# EAGLE library part USB3300 (library Microchip)
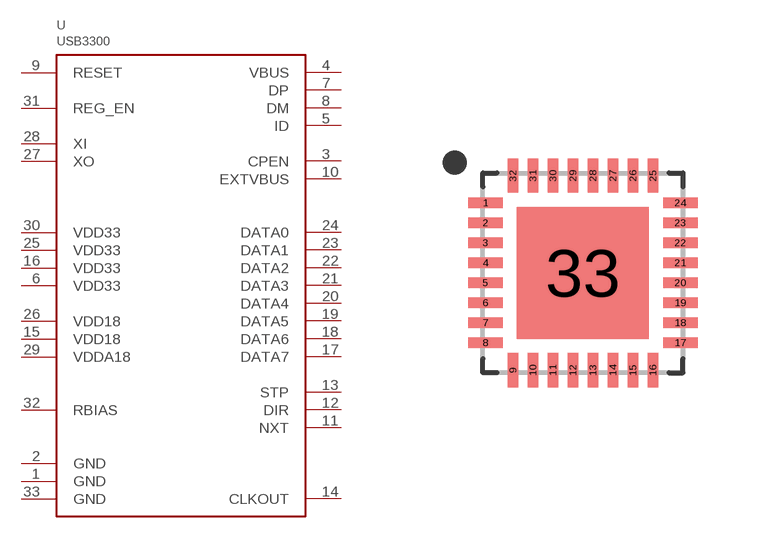
[diagram p14: symbol with the pads of QFN32; footprint QFN32]

Designator prefix U

## USB3300  [QFN32]
1  GND  pwr
2  GND  pwr
3  CPEN  out
4  VBUS
5  ID  in
6  VDD33  pwr
7  DP
8  DM
9  RESET  in
10  EXTVBUS  in
11  NXT  out
12  DIR  out
13  STP  in
14  CLKOUT  out
15  VDD18  pwr
16  VDD33  pwr
17  DATA7
18  DATA6
19  DATA5
20  DATA4
21  DATA3
22  DATA2
23  DATA1
24  DATA0
25  VDD33  pwr
26  VDD18  pwr
27  XO  out
28  XI  in
29  VDDA18  pwr
30  VDD33  pwr
31  REG_EN
32  RBIAS
33  GND  pwr

## Footprint QFN32 (pad centres in mm)
smd 0.86 x 0.26: 1 -2.435,1.75; 2 -2.435,1.25; 3 -2.435,0.75; 4 -2.435,0.25; 5 -2.435,-0.25; 6 -2.435,-0.75; 7 -2.435,-1.25; 8 -2.435,-1.75; 17 2.435,-1.75; 18 2.435,-1.25; 19 2.435,-0.75; 20 2.435,-0.25; 21 2.435,0.25; 22 2.435,0.75; 23 2.435,1.25; 24 2.435,1.75
smd 0.26 x 0.86: 9 -1.75,-2.435; 10 -1.25,-2.435; 11 -0.75,-2.435; 12 -0.25,-2.435; 13 0.25,-2.435; 14 0.75,-2.435; 15 1.25,-2.435; 16 1.75,-2.435; 25 1.75,2.435; 26 1.25,2.435; 27 0.75,2.435; 28 0.25,2.435; 29 -0.25,2.435; 30 -0.75,2.435; 31 -1.25,2.435; 32 -1.75,2.435
smd 3.3 x 3.3: 33 0,0